# EAGLE library part CON-LSTB_MA03-2 (library goJAMMAv02)
PIN HEADER
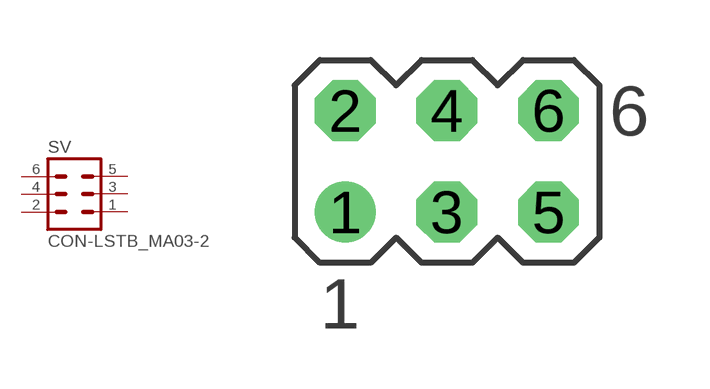
[diagram p11: symbol with the pads of CON-LSTB_MA03-2; footprint CON-LSTB_MA03-2]

Designator prefix SV

## CON-LSTB_MA03-2 (OC_FARNELL: unknown; OC_NEWARK: unknown)  [CON-LSTB_MA03-2]
1  1  pas
2  2  pas
3  3  pas
4  4  pas
5  5  pas
6  6  pas

## Footprint CON-LSTB_MA03-2 (pad centres in mm)
PIN HEADER
drill 1.016: 1 -2.54,-1.27
drill 1.016 octagon: 2 -2.54,1.27; 3 0,-1.27; 4 0,1.27; 5 2.54,-1.27; 6 2.54,1.27